# Altium footprint library micro-samsung.PCBLIB: 1 footprints
Each footprint in its own frame and in the unit in brackets; x right, y up, seen from the top. Pads: shape width x height; smd on the part's side, far side on the other; paste and mask are expansions set on the pad; w line width, h text height; cw(c..) or ccw(c..) is an arc to the next point about the centre after c.
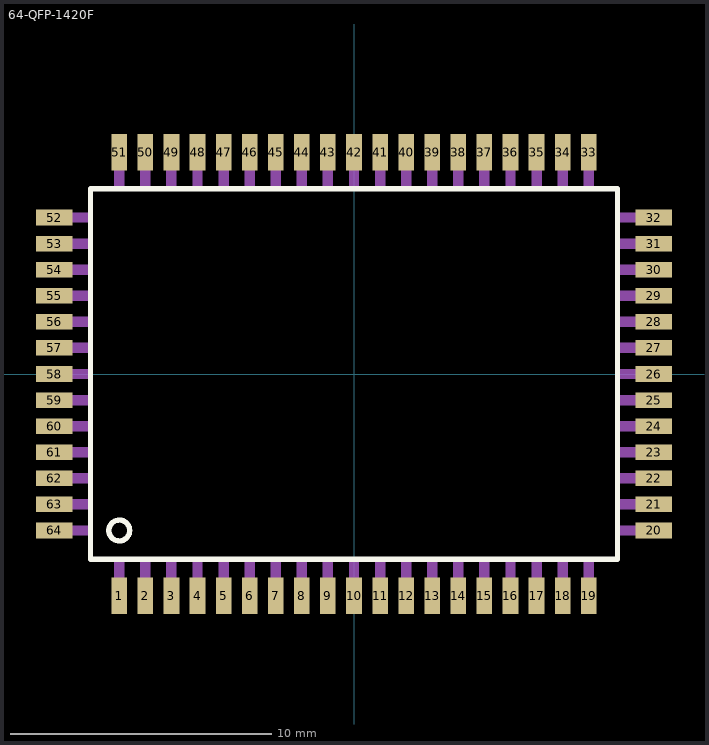
[diagram p0: the footprint, top view; thin cyan lines are the x and y axes]

## 64-QFP-1420F [mm]
pads (64):
  rect 0.6x1.4 smd: 1(-9,-8.5) 2(-8,-8.5) 3(-7,-8.5) 4(-6,-8.5) 5(-5,-8.5) 6(-4,-8.5) 7(-3,-8.5) 8(-2,-8.5) 9(-1,-8.5) 10(0,-8.5) 11(1,-8.5) 12(2,-8.5) 13(3,-8.5) 14(4,-8.5) 15(5,-8.5) 16(6,-8.5) 17(7,-8.5) 18(8,-8.5) 19(9,-8.5) 33(9,8.5) 34(8,8.5) 35(7,8.5) 36(6,8.5) 37(5,8.5) 38(4,8.5) 39(3,8.5) 40(2,8.5) 41(1,8.5) 42(0,8.5) 43(-1,8.5) 44(-2,8.5) 45(-3,8.5) 46(-4,8.5) 47(-5,8.5) 48(-6,8.5) 49(-7,8.5) 50(-8,8.5) 51(-9,8.5)
  rect 1.4x0.6 smd: 20(11.5,-6) 21(11.5,-5) 22(11.5,-4) 23(11.5,-3) 24(11.5,-2) 25(11.5,-1) 26(11.5,0) 27(11.5,1) 28(11.5,2) 29(11.5,3) 30(11.5,4) 31(11.5,5) 32(11.5,6) 52(-11.5,6) 53(-11.5,5) 54(-11.5,4) 55(-11.5,3) 56(-11.5,2) 57(-11.5,1) 58(-11.5,0) 59(-11.5,-1) 60(-11.5,-2) 61(-11.5,-3) 62(-11.5,-4) 63(-11.5,-5) 64(-11.5,-6)
Top Overlay:
  circle w0.203: c-9,-6 r0.4
  lines w0.203: -10.1,-7.1 10.1,-7.1 10.1,7.1 -10.1,7.1 -10.1,-7.1
Mechanical 16:
  rectangle: -9.2,-8.8 -8.8,-7.15
  rectangle: -8.2,-8.8 -7.8,-7.15
  rectangle: -7.2,-8.8 -6.8,-7.15
  rectangle: -6.2,-8.8 -5.8,-7.15
  rectangle: -5.2,-8.8 -4.8,-7.15
  rectangle: -4.2,-8.8 -3.8,-7.15
  rectangle: -3.2,-8.8 -2.8,-7.15
  rectangle: -2.2,-8.8 -1.8,-7.15
  rectangle: -1.2,-8.8 -0.8,-7.15
  rectangle: -0.2,-8.8 0.2,-7.15
  rectangle: 0.8,-8.8 1.2,-7.15
  rectangle: 1.8,-8.8 2.2,-7.15
  rectangle: 2.8,-8.8 3.2,-7.15
  rectangle: 3.8,-8.8 4.2,-7.15
  rectangle: 4.8,-8.8 5.2,-7.15
  rectangle: 5.8,-8.8 6.2,-7.15
  rectangle: 6.8,-8.8 7.2,-7.15
  rectangle: 7.8,-8.8 8.2,-7.15
  rectangle: 8.8,-8.8 9.2,-7.15
  rectangle: 10.15,-6.2 11.8,-5.8
  rectangle: 10.15,-5.2 11.8,-4.8
  rectangle: 10.15,-4.2 11.8,-3.8
  rectangle: 10.15,-3.2 11.8,-2.8
  rectangle: 10.15,-2.2 11.8,-1.8
  rectangle: 10.15,-1.2 11.8,-0.8
  rectangle: 10.15,-0.2 11.8,0.2
  rectangle: 10.15,0.8 11.8,1.2
  rectangle: 10.15,1.8 11.8,2.2
  rectangle: 10.15,2.8 11.8,3.2
  rectangle: 10.15,3.8 11.8,4.2
  rectangle: 10.15,4.8 11.8,5.2
  rectangle: 10.15,5.8 11.8,6.2
  rectangle: 8.8,7.15 9.2,8.8
  rectangle: 7.8,7.15 8.2,8.8
  rectangle: 6.8,7.15 7.2,8.8
  rectangle: 5.8,7.15 6.2,8.8
  rectangle: 4.8,7.15 5.2,8.8
  rectangle: 3.8,7.15 4.2,8.8
  rectangle: 2.8,7.15 3.2,8.8
  rectangle: 1.8,7.15 2.2,8.8
  rectangle: 0.8,7.15 1.2,8.8
  rectangle: -0.2,7.15 0.2,8.8
  rectangle: -1.2,7.15 -0.8,8.8
  rectangle: -2.2,7.15 -1.8,8.8
  rectangle: -3.2,7.15 -2.8,8.8
  rectangle: -4.2,7.15 -3.8,8.8
  rectangle: -5.2,7.15 -4.8,8.8
  rectangle: -6.2,7.15 -5.8,8.8
  rectangle: -7.2,7.15 -6.8,8.8
  rectangle: -8.2,7.15 -7.8,8.8
  rectangle: -9.2,7.15 -8.8,8.8
  rectangle: -11.8,5.8 -10.15,6.2
  rectangle: -11.8,4.8 -10.15,5.2
  rectangle: -11.8,3.8 -10.15,4.2
  rectangle: -11.8,2.8 -10.15,3.2
  rectangle: -11.8,1.8 -10.15,2.2
  rectangle: -11.8,0.8 -10.15,1.2
  rectangle: -11.8,-0.2 -10.15,0.2
  rectangle: -11.8,-1.2 -10.15,-0.8
  rectangle: -11.8,-2.2 -10.15,-1.8
  rectangle: -11.8,-3.2 -10.15,-2.8
  rectangle: -11.8,-4.2 -10.15,-3.8
  rectangle: -11.8,-5.2 -10.15,-4.8
  rectangle: -11.8,-6.2 -10.15,-5.8